# EAGLE library part 0526100672 (library FPC FFC Connectors)
CONN FPC VERT 6POS 1.00MM SMD Manufacturer's datasheet <https://www.molex.com/pdm_docs/sd/526100672_sd.pdf>
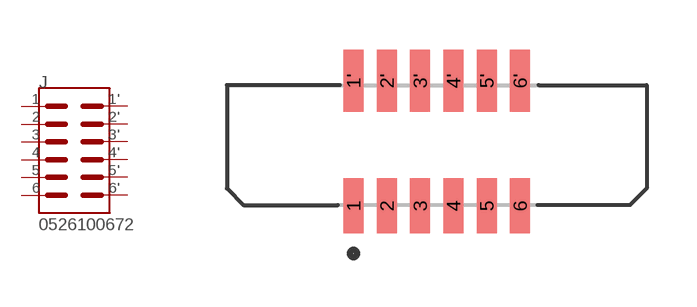
[diagram p10: symbol with the pads of 0526100672; footprint 0526100672]

Designator prefix J

## 0526100672 (CREATED_BY: PCBLayout.com; DIGIKEY_PARTNO: WM10994DKR-ND; MANUFACTURER: Molex; MPN: 0526100672)  [0526100672]
1  1  pas
1'  1'  pas
2  2  pas
2'  2'  pas
3  3  pas
3'  3'  pas
4  4  pas
4'  4'  pas
5  5  pas
5'  5'  pas
6  6  pas
6'  6'  pas

## Footprint 0526100672 (pad centres in mm)
smd 0.6 x 1.65: 1 -2.5,-1.825; 2 -1.5,-1.825; 3 -0.5,-1.825; 4 0.5,-1.825; 5 1.5,-1.825; 6 2.5,-1.825
smd 0.6 x 1.85: 1' -2.5,1.925; 2' -1.5,1.925; 3' -0.5,1.925; 4' 0.5,1.925; 5' 1.5,1.925; 6' 2.5,1.925